# EAGLE library part REG_RT6150 (library akita)
Buck/Boost DC/DC Cnverter, RT6150 / TI's TPS63001
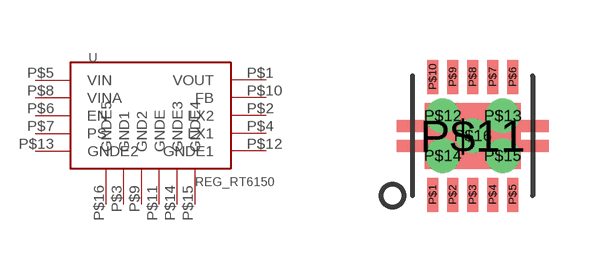
[diagram p108: symbol with the pads of DFN10E; footprint DFN10E]

Designator prefix -

## REG_RT6150AGQW  [DFN10E]
P$1  VOUT
P$2  LX2
P$3  GND1
P$4  LX1
P$5  VIN
P$6  EN
P$7  PS
P$8  VINA
P$9  GND2
P$10  FB
P$11  GNDE
P$12  GNDE1
P$13  GNDE2
P$14  GNDE3
P$15  GNDE4
P$16  GNDE5

## Footprint DFN10E (pad centres in mm)
DFN10, 3x3mm, 0.5mm, with EPAD
smd 0.28 x 0.85: P$1 -1,-1.475; P$2 -0.5,-1.475; P$3 0,-1.475; P$4 0.5,-1.475; P$5 1,-1.475; P$6 1,1.475; P$7 0.5,1.475; P$8 0,1.475; P$9 -0.5,1.475; P$10 -1,1.475
smd 2.4 x 1.65: P$11 0,0
drill 0.35 pad 0.5: P$12 -0.75,0.5; P$13 0.75,0.5; P$14 -0.75,-0.5; P$15 0.75,-0.5; P$16 0,0